# Altium schematic symbol library AT93CXX.SchLib: 1 symbol
Pins are listed as number, name and electrical type; pins without a type are passive.

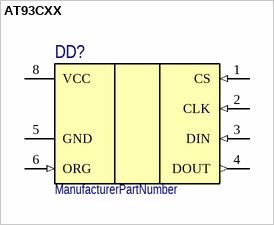
[diagram p0: symbol AT93CXX]

## AT93CXX
designator DD?
ManufacturerPartNumber: ManufacturerPartNumber
pins: 1 CS (in), 2 CLK (in), 3 DIN (in), 4 DOUT (out), 5 GND (power), 6 ORG (in), 7 NC (io) hidden, 8 VCC (power)